# Altium footprint library ADAFRUIT_9DOF_IMU.PcbLib: 1 footprints
Each footprint in its own frame and in the unit in brackets; x right, y up, seen from the top. Pads: shape width x height; smd on the part's side, far side on the other; paste and mask are expansions set on the pad; w line width, h text height; cw(c..) or ccw(c..) is an arc to the next point about the centre after c.
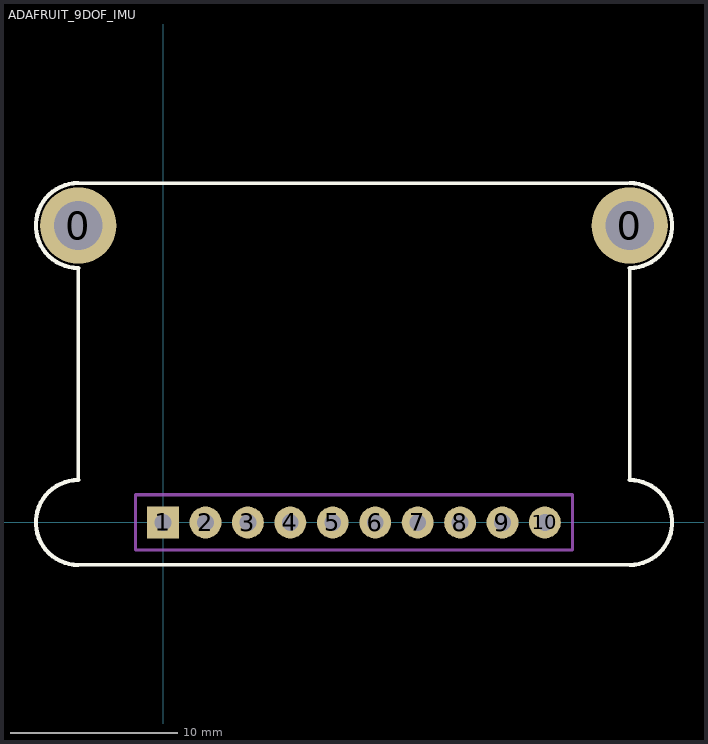
[diagram p0: the footprint, top view; thin cyan lines are the x and y axes]

## ADAFRUIT_9DOF_IMU [mm]
pads (12):
  round 4.572 hole 2.921: 0(-5.08,17.78) 0(27.94,17.78)
  rect 1.905x1.905 hole 1: 1(0,0)
  round 1.905 hole 1: 2(2.54,0) 3(5.08,0) 4(7.62,0) 5(10.16,0) 6(12.7,0) 7(15.24,0) 8(17.78,0) 9(20.32,0) 10(22.86,0)
Top Overlay:
  lines w0.2: -5.207,20.32 27.813,20.32 ; -5.08,-2.54 27.94,-2.54 ; -5.08,2.54 -5.08,15.24 ; 27.94,2.54 27.94,15.24
  lines w0.254: -5.08,-2.54 cw(c-5.08,0) -5.08,2.54 ; -5.08,15.24 cw(c-5.08,17.78) -5.08,20.32 ; 27.94,-2.54 ccw(c27.94,0) 27.94,2.54 ; 27.94,15.24 ccw(c27.94,17.78) 27.94,20.32
Mechanical 13:
  lines w0.2: -1.651,-1.651 24.511,-1.651 24.511,1.651 -1.651,1.651 -1.651,1.143 -1.651,-1.651